# Altium footprint library 74HC14.PcbLib: 1 footprints
Each footprint in its own frame and in the unit in brackets; x right, y up, seen from the top. Pads: shape width x height; smd on the part's side, far side on the other; paste and mask are expansions set on the pad; w line width, h text height; cw(c..) or ccw(c..) is an arc to the next point about the centre after c.
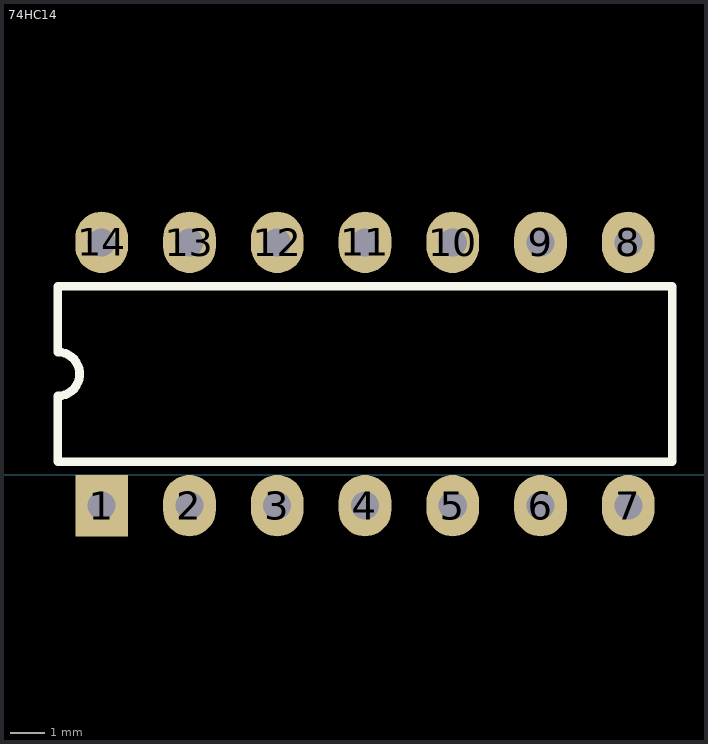
[diagram p0: the footprint, top view; thin cyan lines are the x and y axes]

## 74HC14 [mil]
pads (14):
  rect 60x70 hole 32: 1(340,-35)
  oval 60x70 hole 32: 2(440,-35) 3(540,-35) 4(640,-35) 5(740,-35) 6(840,-35) 7(940,-35) 8(940,265) 9(840,265) 10(740,265) 11(640,265) 12(540,265) 13(440,265) 14(340,265)
Top Overlay:
  lines w10: 290,15 290,90 ccw(c290,115) 290,140 290,215 990,215 990,15 290,15